# Altium footprint library DO201AB.PcbLib: 1 footprints
Each footprint in its own frame and in the unit in brackets; x right, y up, seen from the top. Pads: shape width x height; smd on the part's side, far side on the other; paste and mask are expansions set on the pad; w line width, h text height; cw(c..) or ccw(c..) is an arc to the next point about the centre after c.
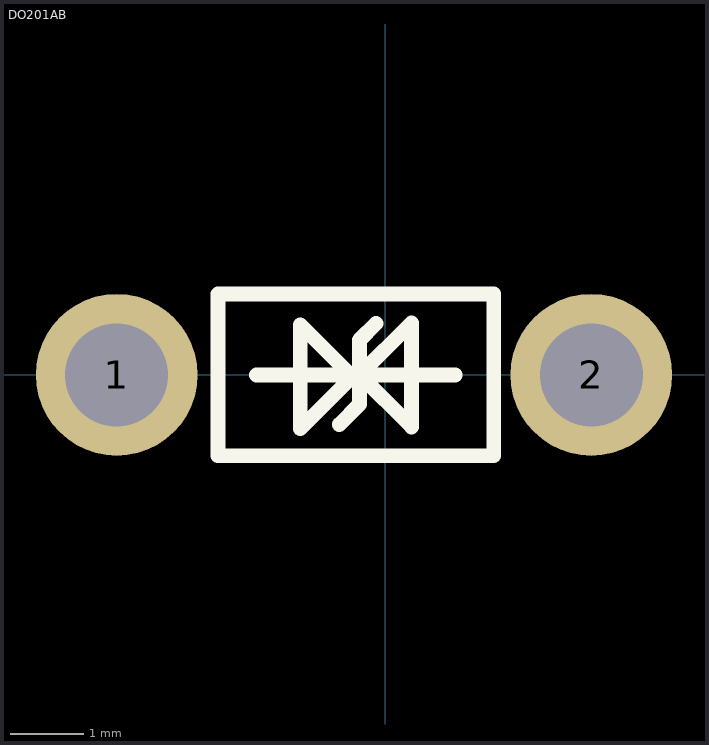
[diagram p0: the footprint, top view; thin cyan lines are the x and y axes]

## DO201AB [mm]
height 0.9
pads (2):
  round 2.2 hole 1.4: 1(-3.65,0) 2(2.8,0)
Top Overlay:
  lines w0.2: -1.75,0 -0.35,0 ; -0.625,-0.675 -0.35,-0.4 -0.35,0 ; -0.125,0.7 -0.35,0.475 -0.35,0 ; 0.95,0 -0.35,0 ; -0.35,0 0.357,0.707 0.357,-0.707 -0.35,0 ; -2.275,-1.1 1.475,-1.1 1.475,1.1 -2.275,1.1 -2.275,-1.1 ; -1.157,-0.732 -0.45,-0.025 -1.157,0.682 -1.157,-0.732
Top Assembly:
  lines w0.1: -2.275,-1.1 1.5,-1.1 1.5,1.125 -2.275,1.125 -2.275,0.556 -2.275,-0.531 -2.275,-1.075
  text "'.Designator'" at -0.95,-0.35 h0.7
3D body "User Library-User Library-DO-201AV-Vertical_2001.STEP": height 15.69, standoff -3, extent -4.29,-2.8 5.6,2.8